# Altium schematic symbol library 0826-1l1t-57-f.SchLib: 1 symbol
Pins are listed as number, name and electrical type; pins without a type are passive.

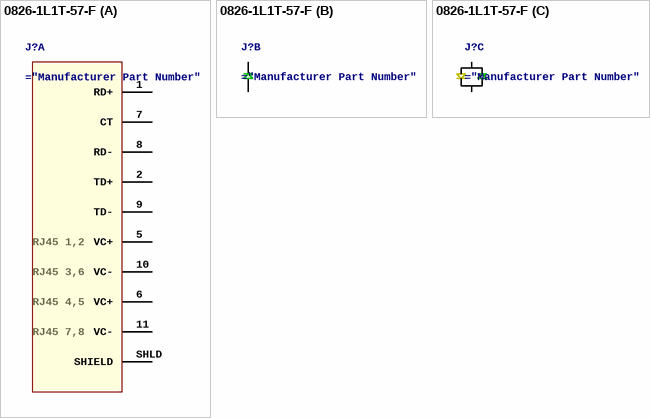
[diagram p0: symbol 0826-1L1T-57-F]

## 0826-1L1T-57-F
designator J?
CONN MAGJACK 1PORT 100 BASE-T
part A pins: 1 RD+, 2 TD+, 5 VC+, 6 VC+, 7 CT, 8 RD-, 9 TD-, 10 VC-, 11 VC-, SHLD SHIELD
part B pins: 14, 15
part C pins: 12, 13
part A text: RJ45 1,2; RJ45 3,6; RJ45 4,5; RJ45 7,8